# Altium footprint library 613 0xx 216 921.PcbLib: 13 footprints
Each footprint in its own frame and in the unit in brackets; x right, y up, seen from the top. Pads: shape width x height; smd on the part's side, far side on the other; paste and mask are expansions set on the pad; w line width, h text height; cw(c..) or ccw(c..) is an arc to the next point about the centre after c.
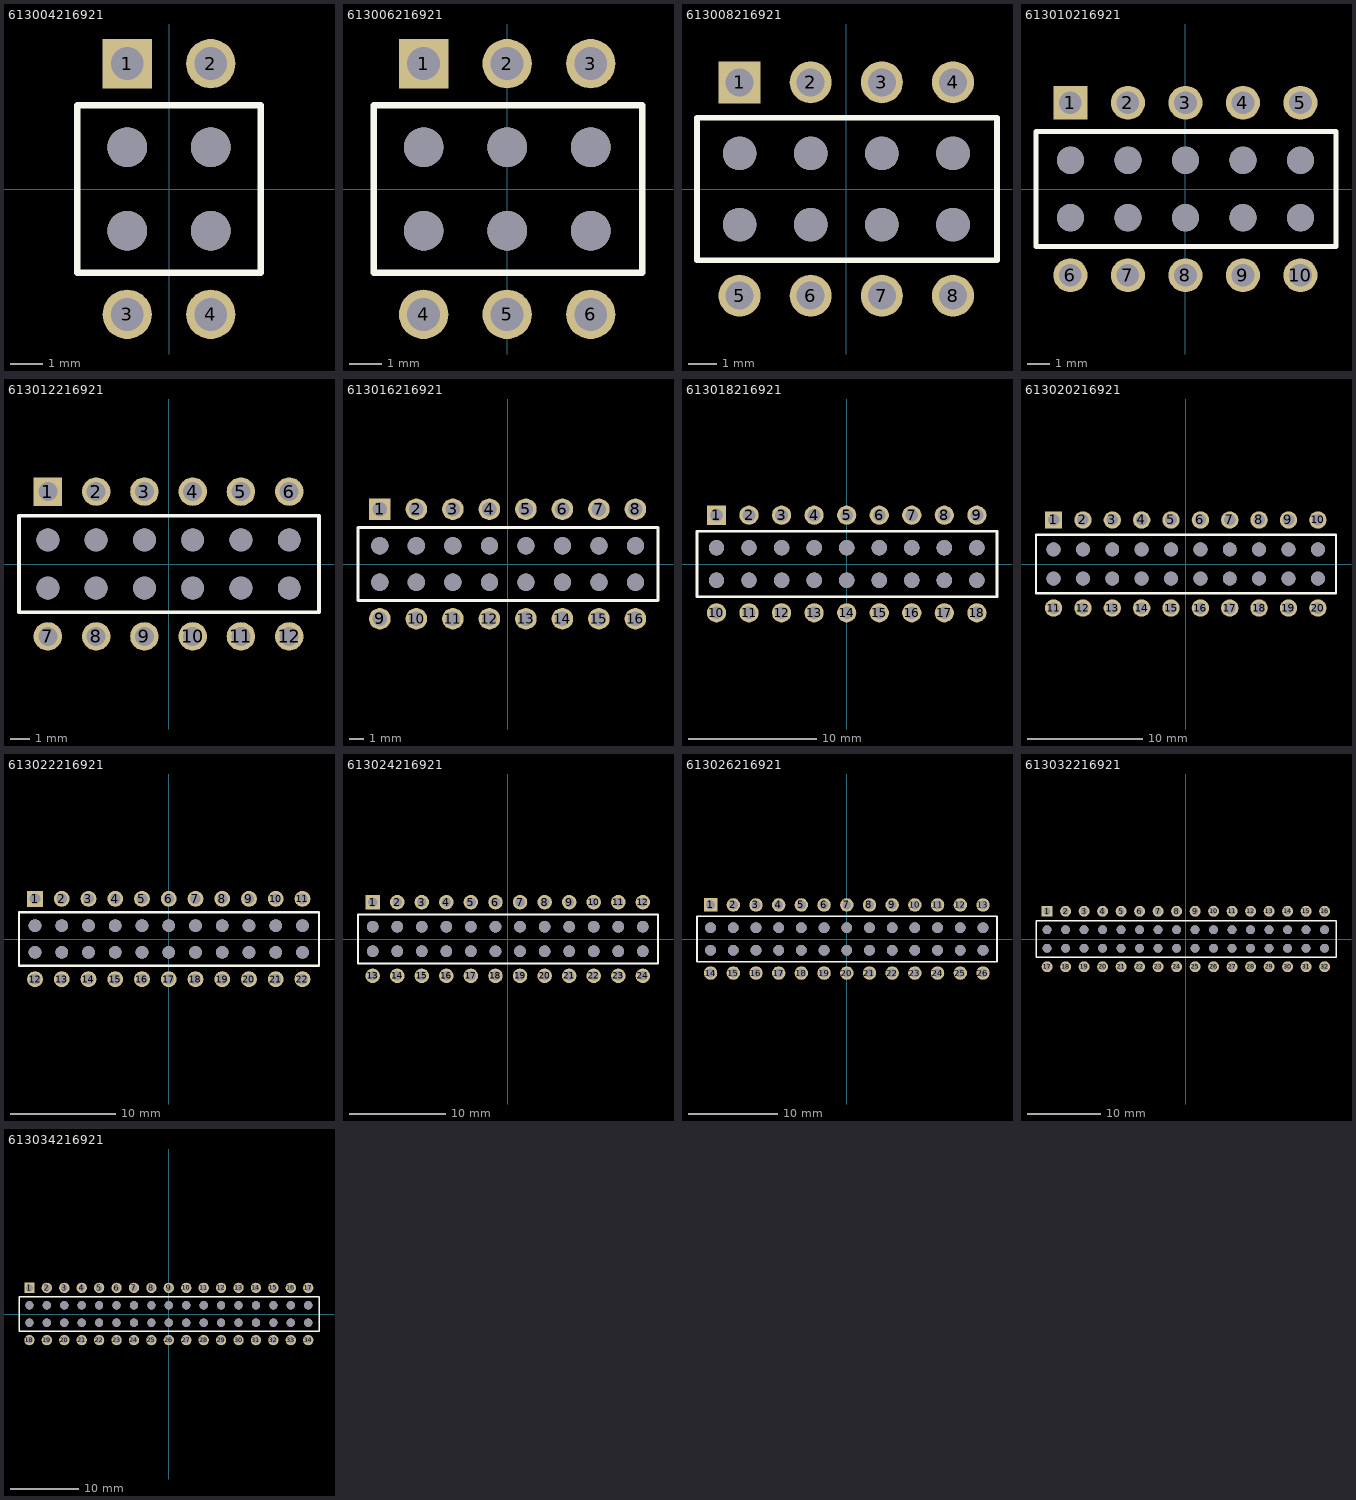
[diagram p0: the footprints below, top view; thin cyan lines are the x and y axes]

## 613004216921 [mm] "Large, 4 pins, dual row, straight, gold plating"
height 5
pads (8):
  rect 1.5x1.5 hole 1: 1(-1.27,3.81)
  round 1.5 hole 1: 2(1.27,3.81) 3(-1.27,-3.81) 4(1.27,-3.81)
  round 1.2 hole 1.2 unplated: ""(-1.27,-1.27) ""(-1.27,1.27) ""(1.27,-1.27) ""(1.27,1.27)
Top Overlay:
  lines w0.2: -2.79,-2.54 -2.79,2.54 2.79,2.54 2.79,-2.54 -2.79,-2.54
3D body "613004216921.stp": height 5.01, standoff -3.09, extent -2.79,-3.935 2.79,3.935

## 613006216921 [mm] "Large, 6 pins, dual row, straight, gold plating"
height 5
pads (12):
  rect 1.5x1.5 hole 1: 1(-2.54,3.81)
  round 1.5 hole 1: 2(0,3.81) 3(2.54,3.81) 4(-2.54,-3.81) 5(0,-3.81) 6(2.54,-3.81)
  round 1.2 hole 1.2 unplated: ""(-2.54,-1.27) ""(-2.54,1.27) ""(0,-1.27) ""(0,1.27) ""(2.54,-1.27) ""(2.54,1.27)
Top Overlay:
  lines w0.2: -4.06,-2.54 -4.06,2.54 4.11,2.54 4.11,-2.54 -4.06,-2.54
3D body "613006216921.stp": height 5.01, standoff -3.09, extent -4.06,-4.06 4.06,3.81

## 613008216921 [mm] "Large, 8 pins, dual row, straight, gold plating"
height 5
pads (16):
  rect 1.5x1.5 hole 1: 1(-3.81,3.81)
  round 1.5 hole 1: 2(-1.27,3.81) 3(1.27,3.81) 4(3.81,3.81) 5(-3.81,-3.81) 6(-1.27,-3.81) 7(1.27,-3.81) 8(3.81,-3.81)
  round 1.2 hole 1.2 unplated: ""(-3.81,-1.27) ""(-3.81,1.27) ""(-1.27,-1.27) ""(-1.27,1.27) ""(1.27,-1.27) ""(1.27,1.27) ""(3.81,-1.27) ""(3.81,1.27)
Top Overlay:
  lines w0.2: -5.33,-2.54 5.38,-2.54 5.38,2.54 -5.33,2.54 -5.33,-2.54
3D body "613008216921.stp": height 5.01, standoff -3.09, extent -5.33,-4.06 5.33,3.81

## 613010216921 [mm] "Large, 10 pins, dual row, straight, gold plating"
height 5
pads (20):
  rect 1.5x1.5 hole 1: 1(-5.08,3.81)
  round 1.5 hole 1: 2(-2.54,3.81) 3(0,3.81) 4(2.54,3.81) 5(5.08,3.81) 6(-5.08,-3.81) 7(-2.54,-3.81) 8(0,-3.81) 9(2.54,-3.81) 10(5.08,-3.81)
  round 1.2 hole 1.2 unplated: ""(-5.08,-1.27) ""(-5.08,1.27) ""(-2.54,-1.27) ""(-2.54,1.27) ""(0,-1.27) ""(0,1.27) ""(2.54,-1.27) ""(2.54,1.27) ""(5.08,-1.27) ""(5.08,1.27)
Top Overlay:
  lines w0.2: -6.6,-2.54 -6.6,2.54 6.65,2.54 6.65,-2.54 -6.6,-2.54
3D body "613010216921.stp": height 5.01, standoff -3.09, extent -6.6,-3.935 6.6,3.935

## 613012216921 [mm] "Large, 12 pins, dual row, straight, gold plating"
height 5
pads (24):
  rect 1.5x1.5 hole 1: 1(-6.35,3.81)
  round 1.5 hole 1: 2(-3.81,3.81) 3(-1.27,3.81) 4(1.27,3.81) 5(3.81,3.81) 6(6.35,3.81) 7(-6.35,-3.81) 8(-3.81,-3.81) 9(-1.27,-3.81) 10(1.27,-3.81) 11(3.81,-3.81) 12(6.35,-3.81)
  round 1.2 hole 1.2 unplated: ""(-6.35,-1.27) ""(-6.35,1.27) ""(-3.81,-1.27) ""(-3.81,1.27) ""(-1.27,-1.27) ""(-1.27,1.27) ""(1.27,-1.27) ""(1.27,1.27) ""(3.81,-1.27) ""(3.81,1.27) ""(6.35,-1.27) ""(6.35,1.27)
Top Overlay:
  lines w0.2: -7.87,-2.54 7.92,-2.54 7.92,2.54 -7.87,2.54 -7.87,-2.54
3D body "613012216921.stp": height 5.01, standoff -3.09, extent -7.87,-3.935 7.87,3.935

## 613016216921 [mm] "Large, 16 pins, dual row, straight, gold plating"
height 5
pads (32):
  rect 1.5x1.5 hole 1: 1(-8.89,3.81)
  round 1.5 hole 1: 2(-6.35,3.81) 3(-3.81,3.81) 4(-1.27,3.81) 5(1.27,3.81) 6(3.81,3.81) 7(6.35,3.81) 8(8.89,3.81) 9(-8.89,-3.81) 10(-6.35,-3.81) 11(-3.81,-3.81) 12(-1.27,-3.81) 13(1.27,-3.81) 14(3.81,-3.81) 15(6.35,-3.81) 16(8.89,-3.81)
  round 1.2 hole 1.2 unplated: ""(-8.89,-1.27) ""(-8.89,1.27) ""(-6.35,-1.27) ""(-6.35,1.27) ""(-3.81,-1.27) ""(-3.81,1.27) ""(-1.27,-1.27) ""(-1.27,1.27) ""(1.27,-1.27) ""(1.27,1.27) ""(3.81,-1.27) ""(3.81,1.27) ""(6.35,-1.27) ""(6.35,1.27) ""(8.89,-1.27) ""(8.89,1.27)
Top Overlay:
  lines w0.2: -10.41,-2.54 -10.41,2.54 10.46,2.54 10.46,-2.54 -10.41,-2.54
3D body "613016216921.stp": height 5.01, standoff -3.09, extent -10.41,-3.935 10.41,3.935

## 613018216921 [mm] "Large, 18 pins, dual row, straight, gold plating"
height 5
pads (36):
  rect 1.5x1.5 hole 1: 1(-10.16,3.81)
  round 1.5 hole 1: 2(-7.62,3.81) 3(-5.08,3.81) 4(-2.54,3.81) 5(0,3.81) 6(2.54,3.81) 7(5.08,3.81) 8(7.62,3.81) 9(10.16,3.81) 10(-10.16,-3.81) 11(-7.62,-3.81) 12(-5.08,-3.81) 13(-2.54,-3.81) 14(0,-3.81) 15(2.54,-3.81) 16(5.08,-3.81) 17(7.62,-3.81) 18(10.16,-3.81)
  round 1.2 hole 1.2 unplated: ""(-10.16,-1.27) ""(-10.16,1.27) ""(-7.62,-1.27) ""(-7.62,1.27) ""(-5.08,-1.27) ""(-5.08,1.27) ""(-2.54,-1.27) ""(-2.54,1.27) ""(0,-1.27) ""(0,1.27) ""(2.54,-1.27) ""(2.54,1.27) ""(5.08,-1.27) ""(5.08,1.27) ""(7.62,-1.27) ""(7.62,1.27) ""(10.16,-1.27) ""(10.16,1.27)
Top Overlay:
  lines w0.2: -11.68,-2.54 11.73,-2.54 11.73,2.54 -11.68,2.54 -11.68,-2.54
3D body "613018216921.stp": height 5.01, standoff -3.09, extent -11.68,-3.935 11.68,3.935

## 613020216921 [mm] "Large, 20 pins, dual row, straight, gold plating"
height 5
pads (40):
  rect 1.5x1.5 hole 1: 1(-11.43,3.81)
  round 1.5 hole 1: 2(-8.89,3.81) 3(-6.35,3.81) 4(-3.81,3.81) 5(-1.27,3.81) 6(1.27,3.81) 7(3.81,3.81) 8(6.35,3.81) 9(8.89,3.81) 10(11.43,3.81) 11(-11.43,-3.81) 12(-8.89,-3.81) 13(-6.35,-3.81) 14(-3.81,-3.81) 15(-1.27,-3.81) 16(1.27,-3.81) 17(3.81,-3.81) 18(6.35,-3.81) 19(8.89,-3.81) 20(11.43,-3.81)
  round 1.2 hole 1.2 unplated: ""(-11.43,-1.27) ""(-11.43,1.27) ""(-8.89,-1.27) ""(-8.89,1.27) ""(-6.35,-1.27) ""(-6.35,1.27) ""(-3.81,-1.27) ""(-3.81,1.27) ""(-1.27,-1.27) ""(-1.27,1.27) ""(1.27,-1.27) ""(1.27,1.27) ""(3.81,-1.27) ""(3.81,1.27) ""(6.35,-1.27) ""(6.35,1.27) ""(8.89,-1.27) ""(8.89,1.27) ""(11.43,-1.27) ""(11.43,1.27)
Top Overlay:
  lines w0.2: -12.95,-2.54 -12.95,2.54 13,2.54 13,-2.54 -12.95,-2.54
3D body "613020216921.stp": height 5.01, standoff -3.09, extent -12.95,-3.935 12.95,3.935

## 613022216921 [mm] "Large, 22 pins, dual row, straight, gold plating"
height 5
pads (44):
  rect 1.5x1.5 hole 1: 1(-12.7,3.81)
  round 1.5 hole 1: 2(-10.16,3.81) 3(-7.62,3.81) 4(-5.08,3.81) 5(-2.54,3.81) 6(0,3.81) 7(2.54,3.81) 8(5.08,3.81) 9(7.62,3.81) 10(10.16,3.81) 11(12.7,3.81) 12(-12.7,-3.81) 13(-10.16,-3.81) 14(-7.62,-3.81) 15(-5.08,-3.81) 16(-2.54,-3.81) 17(0,-3.81) 18(2.54,-3.81) 19(5.08,-3.81) 20(7.62,-3.81) 21(10.16,-3.81) 22(12.7,-3.81)
  round 1.2 hole 1.2 unplated: ""(-12.7,-1.27) ""(-12.7,1.27) ""(-10.16,-1.27) ""(-10.16,1.27) ""(-7.62,-1.27) ""(-7.62,1.27) ""(-5.08,-1.27) ""(-5.08,1.27) ""(-2.54,-1.27) ""(-2.54,1.27) ""(0,-1.27) ""(0,1.27) ""(2.54,-1.27) ""(2.54,1.27) ""(5.08,-1.27) ""(5.08,1.27) ""(7.62,-1.27) ""(7.62,1.27) ""(10.16,-1.27) ""(10.16,1.27) ""(12.7,-1.27) ""(12.7,1.27)
Top Overlay:
  lines w0.2: -14.22,-2.54 14.27,-2.54 14.27,2.54 -14.22,2.54 -14.22,-2.54
3D body "613022216921.stp": height 5.01, standoff -3.09, extent -14.22,-3.935 14.22,3.935

## 613024216921 [mm] "Large, 24 pins, dual row, straight, gold plating"
height 5
pads (48):
  rect 1.5x1.5 hole 1: 1(-13.97,3.81)
  round 1.5 hole 1: 2(-11.43,3.81) 3(-8.89,3.81) 4(-6.35,3.81) 5(-3.81,3.81) 6(-1.27,3.81) 7(1.27,3.81) 8(3.81,3.81) 9(6.35,3.81) 10(8.89,3.81) 11(11.43,3.81) 12(13.97,3.81) 13(-13.97,-3.81) 14(-11.43,-3.81) 15(-8.89,-3.81) 16(-6.35,-3.81) 17(-3.81,-3.81) 18(-1.27,-3.81) 19(1.27,-3.81) 20(3.81,-3.81) 21(6.35,-3.81) 22(8.89,-3.81) 23(11.43,-3.81) 24(13.97,-3.81)
  round 1.2 hole 1.2 unplated: ""(-13.97,-1.27) ""(-13.97,1.27) ""(-11.43,-1.27) ""(-11.43,1.27) ""(-8.89,-1.27) ""(-8.89,1.27) ""(-6.35,-1.27) ""(-6.35,1.27) ""(-3.81,-1.27) ""(-3.81,1.27) ""(-1.27,-1.27) ""(-1.27,1.27) ""(1.27,-1.27) ""(1.27,1.27) ""(3.81,-1.27) ""(3.81,1.27) ""(6.35,-1.27) ""(6.35,1.27) ""(8.89,-1.27) ""(8.89,1.27) ""(11.43,-1.27) ""(11.43,1.27) ""(13.97,-1.27) ""(13.97,1.27)
Top Overlay:
  lines w0.2: -15.49,-2.54 -15.49,2.54 15.54,2.54 15.54,-2.54 -15.49,-2.54
3D body "613024216921.stp": height 5.01, standoff -3.09, extent -15.49,-3.935 15.49,3.935

## 613026216921 [mm] "Large,26 pins, dual row, straight, gold plating"
height 5
pads (52):
  rect 1.5x1.5 hole 1: 1(-15.24,3.81)
  round 1.5 hole 1: 2(-12.7,3.81) 3(-10.16,3.81) 4(-7.62,3.81) 5(-5.08,3.81) 6(-2.54,3.81) 7(0,3.81) 8(2.54,3.81) 9(5.08,3.81) 10(7.62,3.81) 11(10.16,3.81) 12(12.7,3.81) 13(15.24,3.81) 14(-15.24,-3.81) 15(-12.7,-3.81) 16(-10.16,-3.81) 17(-7.62,-3.81) 18(-5.08,-3.81) 19(-2.54,-3.81) 20(0,-3.81) 21(2.54,-3.81) 22(5.08,-3.81) 23(7.62,-3.81) 24(10.16,-3.81) 25(12.7,-3.81) 26(15.24,-3.81)
  round 1.2 hole 1.2 unplated: ""(-15.24,-1.27) ""(-15.24,1.27) ""(-12.7,-1.27) ""(-12.7,1.27) ""(-10.16,-1.27) ""(-10.16,1.27) ""(-7.62,-1.27) ""(-7.62,1.27) ""(-5.08,-1.27) ""(-5.08,1.27) ""(-2.54,-1.27) ""(-2.54,1.27) ""(0,-1.27) ""(0,1.27) ""(2.54,-1.27) ""(2.54,1.27) ""(5.08,-1.27) ""(5.08,1.27) ""(7.62,-1.27) ""(7.62,1.27) ""(10.16,-1.27) ""(10.16,1.27) ""(12.7,-1.27) ""(12.7,1.27) ""(15.24,-1.27) ""(15.24,1.27)
Top Overlay:
  lines w0.2: -16.76,-2.54 16.81,-2.54 16.81,2.54 -16.76,2.54 -16.76,-2.54
3D body "613026216921.stp": height 5.01, standoff -3.09, extent -16.76,-3.935 16.76,3.935

## 613032216921 [mm] "Large, 32 pins, dual row, straight, gold plating"
height 5
pads (64):
  rect 1.5x1.5 hole 1: 1(-19.05,3.81)
  round 1.5 hole 1: 2(-16.51,3.81) 3(-13.97,3.81) 4(-11.43,3.81) 5(-8.89,3.81) 6(-6.35,3.81) 7(-3.81,3.81) 8(-1.27,3.81) 9(1.27,3.81) 10(3.81,3.81) 11(6.35,3.81) 12(8.89,3.81) 13(11.43,3.81) 14(13.97,3.81) 15(16.51,3.81) 16(19.05,3.81) 17(-19.05,-3.81) 18(-16.51,-3.81) 19(-13.97,-3.81) 20(-11.43,-3.81) 21(-8.89,-3.81) 22(-6.35,-3.81) 23(-3.81,-3.81) 24(-1.27,-3.81) 25(1.27,-3.81) 26(3.81,-3.81) 27(6.35,-3.81) 28(8.89,-3.81) 29(11.43,-3.81) 30(13.97,-3.81) 31(16.51,-3.81) 32(19.05,-3.81)
  round 1.2 hole 1.2 unplated: ""(-19.05,-1.27) ""(-19.05,1.27) ""(-16.51,-1.27) ""(-16.51,1.27) ""(-13.97,-1.27) ""(-13.97,1.27) ""(-11.43,-1.27) ""(-11.43,1.27) ""(-8.89,-1.27) ""(-8.89,1.27) ""(-6.35,-1.27) ""(-6.35,1.27) ""(-3.81,-1.27) ""(-3.81,1.27) ""(-1.27,-1.27) ""(-1.27,1.27) ""(1.27,-1.27) ""(1.27,1.27) ""(3.81,-1.27) ""(3.81,1.27) ""(6.35,-1.27) ""(6.35,1.27) ""(8.89,-1.27) ""(8.89,1.27) ""(11.43,-1.27) ""(11.43,1.27) ""(13.97,-1.27) ""(13.97,1.27) ""(16.51,-1.27) ""(16.51,1.27) ""(19.05,-1.27) ""(19.05,1.27)
Top Overlay:
  lines w0.2: -20.57,-2.54 -20.57,2.54 20.62,2.54 20.62,-2.54 -20.57,-2.54
3D body "613032216921.stp": height 5.01, standoff -3.09, extent -20.57,-3.935 20.57,3.935

## 613034216921 [mm] "Large, 34 pins, dual row, straight, gold plating"
height 5
pads (68):
  rect 1.5x1.5 hole 1: 1(-20.32,3.81)
  round 1.5 hole 1: 2(-17.78,3.81) 3(-15.24,3.81) 4(-12.7,3.81) 5(-10.16,3.81) 6(-7.62,3.81) 7(-5.08,3.81) 8(-2.54,3.81) 9(0,3.81) 10(2.54,3.81) 11(5.08,3.81) 12(7.62,3.81) 13(10.16,3.81) 14(12.7,3.81) 15(15.24,3.81) 16(17.78,3.81) 17(20.32,3.81) 18(-20.32,-3.81) 19(-17.78,-3.81) 20(-15.24,-3.81) 21(-12.7,-3.81) 22(-10.16,-3.81) 23(-7.62,-3.81) 24(-5.08,-3.81) 25(-2.54,-3.81) 26(0,-3.81) 27(2.54,-3.81) 28(5.08,-3.81) 29(7.62,-3.81) 30(10.16,-3.81) 31(12.7,-3.81) 32(15.24,-3.81) 33(17.78,-3.81) 34(20.32,-3.81)
  round 1.2 hole 1.2 unplated: ""(-20.32,-1.27) ""(-20.32,1.27) ""(-17.78,-1.27) ""(-17.78,1.27) ""(-15.24,-1.27) ""(-15.24,1.27) ""(-12.7,-1.27) ""(-12.7,1.27) ""(-10.16,-1.27) ""(-10.16,1.27) ""(-7.62,-1.27) ""(-7.62,1.27) ""(-5.08,-1.27) ""(-5.08,1.27) ""(-2.54,-1.27) ""(-2.54,1.27) ""(0,-1.27) ""(0,1.27) ""(2.54,-1.27) ""(2.54,1.27) ""(5.08,-1.27) ""(5.08,1.27) ""(7.62,-1.27) ""(7.62,1.27) ""(10.16,-1.27) ""(10.16,1.27) ""(12.7,-1.27) ""(12.7,1.27) ""(15.24,-1.27) ""(15.24,1.27) ""(17.78,-1.27) ""(17.78,1.27) ""(20.32,-1.27) ""(20.32,1.27)
Top Overlay:
  lines w0.2: -21.84,-2.54 -21.84,2.54 21.89,2.54 21.89,-2.54 -21.84,-2.54
3D body "613034216921.stp": height 5.01, standoff -3.09, extent -21.84,-3.935 21.84,3.935